# Altium schematic symbol library MOS-N.SchLib: 1 symbol
Pins are listed as number, name and electrical type; pins without a type are passive.

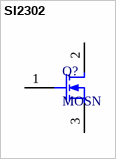
[diagram p0: symbol SI2302]

## SI2302
designator Q?, comment MOSN
footprint PCBComponent_1
pins: 1 G, 2 S, 3 D